# Altium schematic symbol library RJ12_6-6_215876-1.SchLib: 1 symbol
Pins are listed as number, name and electrical type; pins without a type are passive.

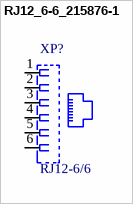
[diagram p0: symbol RJ12_6-6_215876-1]

## RJ12_6-6_215876-1
designator XP?, comment RJ12-6/6
Conn RJ-25 F 6 POS 2.54mm Solder RA Thru-Hole 6 Terminal 1 Port Automotive Cat 3 T/R; MP: 215876-1; Centerline_Pitch: 1.27 mm[.05 in]; Number_of_Positions: 6; MF: TE Connectivity; TE_purchase_URL: https://www.te.com/usa-en/product-215876-1.html?te_bu=Cor&te_type=disp&te_campaign=seda_glo_cor-seda-global-disp-prtnr-fy19-seda-model-bom-cta_sma-317_1&elqCampaignId=32493; Package: None; Price: None; SnapEDA_Link: https://www.snapeda.com/parts/215876-1/TE%20Connectivity%20AMP%20Connectors/view-part/2550165/?ref=snap; Availability: Unavailable; Value: *
footprint RJ12_6-6_215876-1
pins: 1, 2, 3, 4, 5, 6